# Altium schematic symbol library CeBOT.SCHLIB: 18 symbols
Pins are listed as number, name and electrical type; pins without a type are passive.

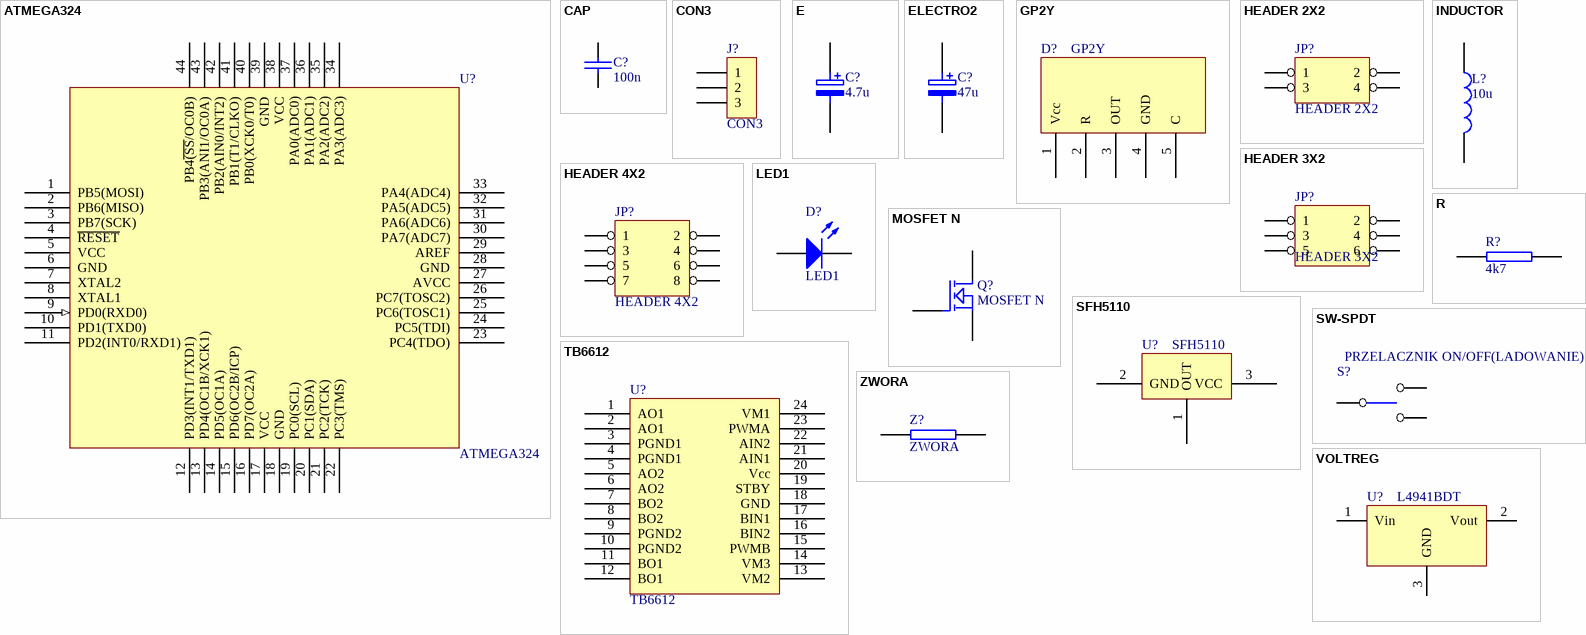
[diagram p0: symbols ATMEGA324 to ZWORA]

## ATMEGA324
designator U?
footprint TQFP44
pins: 1 PB5(MOSI), 2 PB6(MISO), 3 PB7(SCK), 4 ~{RESET}, 5 VCC, 6 GND, 7 XTAL2, 8 XTAL1, 9 PD0(RXD0) (in), 10 PD1(TXD0) (power), 11 PD2(INT0/RXD1) (power), 12 PD3(INT1/TXD1), 13 PD4(OC1B/XCK1), 14 PD5(OC1A), 15 PD6(OC2B/ICP), 16 PD7(OC2A), 17 VCC, 18 GND, 19 PC0(SCL), 20 PC1(SDA), 21 PC2(TCK), 22 PC3(TMS), 23 PC4(TDO), 24 PC5(TDI), 25 PC6(TOSC1), 26 PC7(TOSC2), 27 AVCC, 28 GND, 29 AREF, 30 PA7(ADC7), 31 PA6(ADC6), 32 PA5(ADC5), 33 PA4(ADC4), 34 PA3(ADC3), 35 PA2(ADC2), 36 PA1(ADC1), 37 PA0(ADC0), 38 VCC, 39 GND, 40 PB0(XCK0/T0), 41 PB1(T1/CLKO), 42 PB2(AIN0/INT2), 43 PB3(ANI1/OC0A), 44 PB4~{(SS}/OC0B)

## CAP
designator C?, comment 100n
Capacitor
footprint 0805
footprint 0603
footprint RAD0.2
footprint 1005BO
footprint 0805 CAP
pins: 1, 2

## CON3
designator J?
Connector
footprint SIP3 SMD (Footprint not found)
footprint SIP3 1.5MM
pins: 1, 2, 3

## E
designator C?, comment 4.7u
footprint TYEH F
footprint TANTAL_A
footprint TYEH F
footprint TANTAL1UF
footprint 0603
pins: 1, 2

## ELECTRO2
designator C?, comment 47u
Electrolytic Capacitor
footprint TANTAL_C
footprint RB.2/.4
footprint TANTAL10UF
footprint TYEH F
pins: 1, 2

## GP2Y
designator D?
footprint gp2y smd
pins: 1 Vcc, 2 R, 3 OUT, 4 GND, 5 C

## HEADER 2X2
designator JP?
footprint MM2X2 SMD
pins: 1, 2, 3, 4

## HEADER 3X2
designator JP?
footprint MM3X2 SMD
pins: 1, 2, 3, 4, 5, 6

## HEADER 4X2
designator JP?
footprint SIP2X4 SMD
footprint MM4X2 SMD
pins: 1, 2, 3, 4, 5, 6, 7, 8

## INDUCTOR
designator L?, comment 10u
footprint 0805 IND
footprint 0603
footprint 1206 IND
pins: 1, 2

## LED1
designator D?
Typical RED GaAs LED; Published: 8-Jun-2000; LatestRevisionDate: 08-Jul-2005; LatestRevisionNote: Mech Layer 1 removed.; PackageReference: LED-1; Publisher: Altium Limited; PackageDescription: LED; 2 Leads
footprint LED-1 (LED; 2 Leads)
simulation model LED1 (Diode)
footprint Maritex_LED_angular
pins: 1 K, 2 A

## MOSFET N
designator Q?
pins: 1 G, 2 S, 3 D
2 alternate drawings of the same symbol

## R
designator R?, comment 4k7
footprint 0805
footprint 1206
footprint AXIAL0.3
footprint 0603
footprint 0805 RES
pins: 1, 2

## SFH5110
designator U?
footprint TSOP77338TT
pins: 1 OUT, 2 GND, 3 VCC

## SW-SPDT
designator S?, comment PRZELACZNIK ON/OFF(LADOWANIE)
footprint SLIDE SPDT
pins: 1, 2, 3

## TB6612
designator U?
footprint SSOP24
pins: 1 AO1, 2 AO1, 3 PGND1, 4 PGND1, 5 AO2, 6 AO2, 7 BO2, 8 BO2, 9 PGND2, 10 PGND2, 11 BO1, 12 BO1, 13 VM2, 14 VM3, 15 PWMB, 16 BIN2, 17 BIN1, 18 GND, 19 STBY, 20 Vcc, 21 AIN1, 22 AIN2, 23 PWMA, 24 VM1

## VOLTREG
designator U?, comment L4941BDT
footprint D2PAK
footprint TO-220
footprint TO-252
pins: 1 Vin, 2 Vout, 3 GND

## ZWORA
designator Z?
footprint 0805
footprint 1206
footprint 1005BO
footprint 0603
pins: 1, 2